# Altium schematic symbol library SCH - CONNECTORS - 8 PIN.SCHLIB: 1 symbol
Pins are listed as number, name and electrical type; pins without a type are passive.

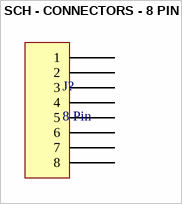
[diagram p0: symbol SCH - CONNECTORS - 8 PIN]

## SCH - CONNECTORS - 8 PIN
designator J?, comment 8 Pin
pins: 1, 2, 3, 4, 5, 6, 7, 8